# Altium footprint library Modules.PcbLib: 5 footprints
Each footprint in its own frame and in the unit in brackets; x right, y up, seen from the top. Pads: shape width x height; smd on the part's side, far side on the other; paste and mask are expansions set on the pad; w line width, h text height; cw(c..) or ccw(c..) is an arc to the next point about the centre after c.
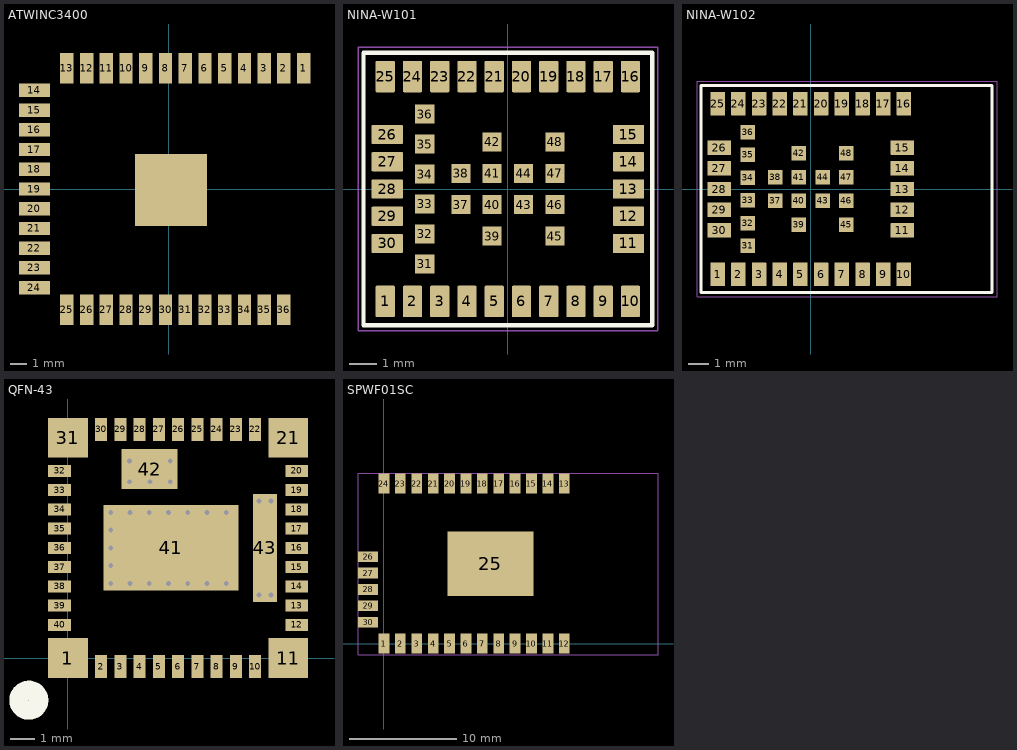
[diagram p0: the footprints below, top view; thin cyan lines are the x and y axes]

## ATWINC3400 [mil] "WIFI/BLE Module"
pads (37):
  rect 32x74 smd mask+2: 1(323.46,290) 2(276.06,290) 3(228.66,290) 4(181.26,290) 5(133.86,290) 6(86.46,290) 7(39.06,290) 8(-8.35,290) 9(-55.75,290) 10(-103.15,290) 11(-150.55,290) 12(-197.95,290) 13(-245.35,290) 25(-245.35,-290) 26(-197.95,-290) 27(-150.55,-290) 28(-103.15,-290) 29(-55.75,-290) 30(-8.35,-290) 31(39.06,-290) 32(86.46,-290) 33(133.86,-290) 34(181.26,-290) 35(228.66,-290) 36(276.06,-290)
  rect 74x32 smd mask+2: 14(-323.46,237.01) 15(-323.46,189.61) 16(-323.46,142.2) 17(-323.46,94.8) 18(-323.46,47.4) 19(-323.46,0) 20(-323.46,-47.4) 21(-323.46,-94.8) 22(-323.46,-142.2) 23(-323.46,-189.61) 24(-323.46,-237.01)
  rect 173.23x173.23 smd: ""(4.41,-2)
3D body: height 82.68, standoff 0, extent -314.33,-292.68 571.5,297.87

## NINA-W101 [mm] "WiFi and Bluetooth low energy module"
height 4.14
pads (48):
  rrect10% 0.7x1.15 smd paste+0 mask+0.05: 1(-4.5,-4.125) 2(-3.5,-4.125) 3(-2.5,-4.125) 4(-1.5,-4.125) 5(-0.5,-4.125) 6(0.5,-4.125) 7(1.5,-4.125) 8(2.5,-4.125) 9(3.5,-4.125) 10(4.5,-4.125) 16(4.5,4.125) 17(3.5,4.125) 18(2.5,4.125) 19(1.5,4.125) 20(0.5,4.125) 21(-0.5,4.125) 22(-1.5,4.125) 23(-2.5,4.125) 24(-3.5,4.125) 25(-4.5,4.125)
  rrect10% 1.15x0.7 smd paste+0 mask+0.05: 11(4.425,-2) 12(4.425,-1) 13(4.425,0) 14(4.425,1) 15(4.425,2) 26(-4.425,2) 27(-4.425,1) 28(-4.425,0) 29(-4.425,-1) 30(-4.425,-2)
  rect 0.7x0.7 smd paste+0 mask+0.05: 31(-3.05,-2.75) 32(-3.05,-1.65) 33(-3.05,-0.55) 34(-3.05,0.55) 35(-3.05,1.65) 36(-3.05,2.75) 37(-1.725,-0.575) 38(-1.725,0.575) 39(-0.575,-1.725) 40(-0.575,-0.575) 41(-0.575,0.575) 42(-0.575,1.725) 43(0.575,-0.575) 44(0.575,0.575) 45(1.725,-1.725) 46(1.725,-0.575) 47(1.725,0.575) 48(1.725,1.725)
Top Overlay:
  lines w0.15: -5.3,-5 -5.3,5 5.3,5 5.3,-5 -5.3,-5
Mechanical 13:
  lines w0.1: -5.3,-5 -5.3,5 5.31,5 5.31,-5 -5.3,-5
Mechanical 15:
  lines w0.05: -5.5,-5.2 -5.5,5.2 5.51,5.2 5.51,-5.2 -5.5,-5.2
3D body "NINA-W131-00B.STEP": height 2.2, standoff -0.01, extent -5.325,-4.999 5.275,5.001

## NINA-W102 [mm] "WiFi and Bluetooth low energy module"
height 4.14
pads (48):
  rrect10% 0.7x1.15 smd paste+0 mask+0.05: 1(-4.5,-4.125) 2(-3.5,-4.125) 3(-2.5,-4.125) 4(-1.5,-4.125) 5(-0.5,-4.125) 6(0.5,-4.125) 7(1.5,-4.125) 8(2.5,-4.125) 9(3.5,-4.125) 10(4.5,-4.125) 16(4.5,4.125) 17(3.5,4.125) 18(2.5,4.125) 19(1.5,4.125) 20(0.5,4.125) 21(-0.5,4.125) 22(-1.5,4.125) 23(-2.5,4.125) 24(-3.5,4.125) 25(-4.5,4.125)
  rrect10% 1.15x0.7 smd paste+0 mask+0.05: 11(4.425,-2) 12(4.425,-1) 13(4.425,0) 14(4.425,1) 15(4.425,2) 26(-4.425,2) 27(-4.425,1) 28(-4.425,0) 29(-4.425,-1) 30(-4.425,-2)
  rect 0.7x0.7 smd paste+0 mask+0.05: 31(-3.05,-2.75) 32(-3.05,-1.65) 33(-3.05,-0.55) 34(-3.05,0.55) 35(-3.05,1.65) 36(-3.05,2.75) 37(-1.725,-0.575) 38(-1.725,0.575) 39(-0.575,-1.725) 40(-0.575,-0.575) 41(-0.575,0.575) 42(-0.575,1.725) 43(0.575,-0.575) 44(0.575,0.575) 45(1.725,-1.725) 46(1.725,-0.575) 47(1.725,0.575) 48(1.725,1.725)
Top Overlay:
  lines w0.15: -5.3,-5 -5.3,5 8.75,5 8.75,-5 -5.3,-5
Mechanical 13:
  lines w0.1: -5.3,-5 -5.3,5 8.75,5 8.75,-5 -5.3,-5
Mechanical 15:
  lines w0.05: -5.5,-5.2 -5.5,5.2 9,5.2 9,-5.2 -5.5,-5.2
3D body "NINA-W132-00B.STEP": height 3.81, standoff -0.01, extent -5.3,-5 8.7,5

## QFN-43 [mm] "PMIC Footprint for specialized TI part"
pads (43):
  rect 1.65x1.65 smd mask+0.051: 1(0,0) 11(9.15,0) 21(9.15,9.15) 31(0,9.15)
  rect 0.5x0.95 smd mask+0.051: 2(1.375,-0.35) 3(2.175,-0.35) 4(2.975,-0.35) 5(3.775,-0.35) 6(4.575,-0.35) 7(5.375,-0.35) 8(6.175,-0.35) 9(6.975,-0.35) 10(7.775,-0.35) 22(7.775,9.5) 23(6.975,9.5) 24(6.175,9.5) 25(5.375,9.5) 26(4.575,9.5) 27(3.775,9.5) 28(2.975,9.5) 29(2.175,9.5) 30(1.375,9.5)
  rect 0.95x0.5 smd mask+0.051: 12(9.5,1.375) 13(9.5,2.175) 14(9.5,2.975) 15(9.5,3.775) 16(9.5,4.575) 17(9.5,5.375) 18(9.5,6.175) 19(9.5,6.975) 20(9.5,7.775) 32(-0.35,7.775) 33(-0.35,6.975) 34(-0.35,6.175) 35(-0.35,5.375) 36(-0.35,4.575) 37(-0.35,3.775) 38(-0.35,2.975) 39(-0.35,2.175) 40(-0.35,1.375)
  rect 5.6x3.55 smd paste+0 mask-0.6: 41(4.275,4.575)
  rect 2.32x1.65 smd mask-0.6: 42(3.388,7.85)
  rect 1x4.5 smd mask-0.6: 43(8.175,4.575)
via 4.248,8.185 diameter 0.406 hole 0.203
via 2.55,8.185 diameter 0.406 hole 0.203
via 3.4,7.325 diameter 0.406 hole 0.203
via 4.248,7.325 diameter 0.406 hole 0.203
via 2.55,7.325 diameter 0.406 hole 0.203
via 8.425,6.525 diameter 0.406 hole 0.203
via 7.925,6.525 diameter 0.406 hole 0.203
via 8.425,2.625 diameter 0.406 hole 0.203
via 7.925,2.625 diameter 0.406 hole 0.203
via 6.575,3.1 diameter 0.406 hole 0.203
via 5.775,3.1 diameter 0.406 hole 0.203
via 4.975,3.1 diameter 0.406 hole 0.203
via 4.175,3.1 diameter 0.406 hole 0.203
via 3.375,3.1 diameter 0.406 hole 0.203
via 2.575,3.1 diameter 0.406 hole 0.203
via 6.575,6.05 diameter 0.406 hole 0.203
via 5.775,6.05 diameter 0.406 hole 0.203
via 4.975,6.05 diameter 0.406 hole 0.203
via 4.175,6.05 diameter 0.406 hole 0.203
via 3.375,6.05 diameter 0.406 hole 0.203
via 2.575,6.05 diameter 0.406 hole 0.203
via 1.775,5.312 diameter 0.406 hole 0.203
via 1.775,4.575 diameter 0.406 hole 0.203
via 1.775,3.837 diameter 0.406 hole 0.203
via 1.775,3.1 diameter 0.406 hole 0.203
via 1.775,6.05 diameter 0.406 hole 0.203
Top Overlay:
  circle w0.8: c-1.625,-1.75 r0.41
Top Solder:
  region: 6.475,5.75 7.075,5.75 7.075,3.4 6.475,3.4
  region: 2.825,8.075 2.825,8.675 3.95,8.675 3.95,8.075
  region: 7.675,6.225 8.675,6.225 8.675,2.95 7.675,2.95
3D body "RVQ0043A.stp": height 4.2, standoff 0, extent -0.425,-0.425 9.575,9.575

## SPWF01SC [mm] "STM WIFI Module"
pads (30):
  rect 1x1.85 smd mask+0.051: 1(0,0) 2(1.524,0) 3(3.048,0) 4(4.572,0) 5(6.096,0) 6(7.62,0) 7(9.144,0) 8(10.668,0) 9(12.192,0) 10(13.716,0) 11(15.24,0) 12(16.764,0) 13(16.764,14.87) 14(15.24,14.87) 15(13.716,14.87) 16(12.192,14.87) 17(10.668,14.87) 18(9.144,14.87) 19(7.62,14.87) 20(6.096,14.87) 21(4.572,14.87) 22(3.048,14.87) 23(1.524,14.87) 24(0,14.87)
  rect 8x6 smd: 25(9.9,7.435)
  rect 1.85x1 smd mask+0.051: 26(-1.47,8.076) 27(-1.47,6.552) 28(-1.47,5.028) 29(-1.47,3.504) 30(-1.47,1.98)
Mechanical 2:
  lines w0.1: -2.413,-1.041 -2.413,15.824 25.476,15.824 25.476,-1.041 -2.413,-1.041
Mechanical 4:
  lines w0.1: -2.413,-1.041 25.476,-1.041 25.476,15.824 -2.413,15.824 -2.413,-1.041
Mechanical 7:
  lines w0.1: -2.413,-1.041 -2.413,15.824 25.476,15.824 25.476,-1.041 -2.413,-1.041
  text ".Designator" at 16.053,6.96 h2.5
3D body: height 2.35, standoff 0, extent -1.752,-0.068 25.5,14.932